# Altium schematic symbol library L78xxCV.SchLib: 1 symbol
Pins are listed as number, name and electrical type; pins without a type are passive.

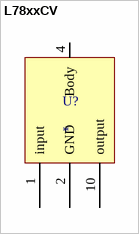
[diagram p0: symbol L78xxCV]

## L78xxCV
designator U?
linear Regulator
pins: 1 input, 2 GND, 4 Body, 10 output